# Altium footprint library PW14_L.PcbLib: 1 footprints
Each footprint in its own frame and in the unit in brackets; x right, y up, seen from the top. Pads: shape width x height; smd on the part's side, far side on the other; paste and mask are expansions set on the pad; w line width, h text height; cw(c..) or ccw(c..) is an arc to the next point about the centre after c.
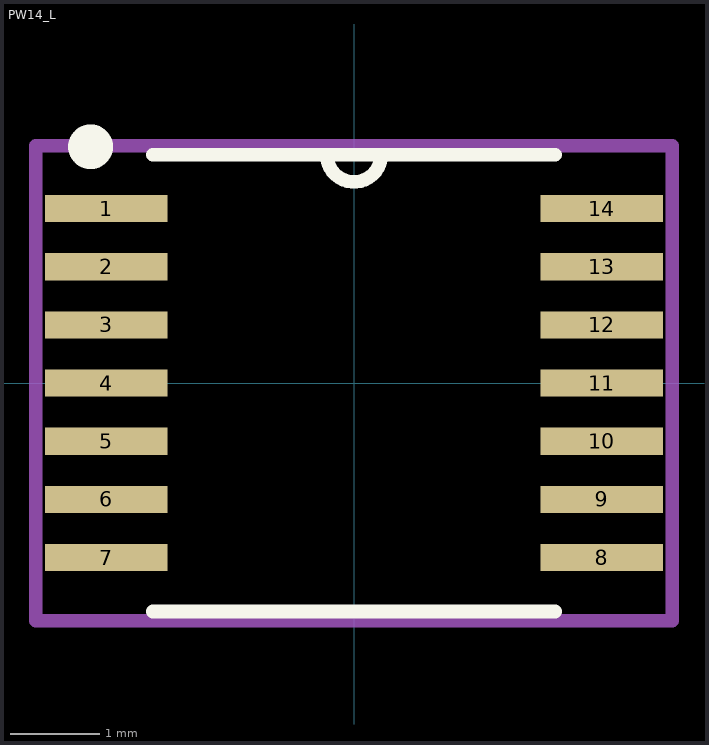
[diagram p0: the footprint, top view; thin cyan lines are the x and y axes]

## PW14_L [mil]
pads (14):
  rect 54x12 smd: 1(-109,76.77) 2(-109,51.18) 3(-109,25.59) 4(-109,0) 5(-109,-25.59) 6(-109,-51.18) 7(-109,-76.77) 8(109,-76.77) 9(109,-51.18) 10(109,-25.59) 11(109,0) 12(109,25.59) 13(109,51.18) 14(109,76.77)
Top Overlay:
  circle w9.84: c-115.92,104 r4.92
  lines w6: -88.5,-100.5 88.5,-100.5 ; -88.5,100.5 88.5,100.5 ; -12,100.5 ccw(c0,100.5) 12,100.5
Mechanical 13:
  lines w0: -12,100.5 ccw(c0,100.5) 12,100.5
Mechanical 15:
  lines w6: -140,-104.5 -140,104.5 140,104.5 140,-104.5 -140,-104.5
3D body "PW0014A.stp": height 44.49, standoff 0, extent -126.48,-98.92 125.49,97.93